# Altium footprint library PcbLib1.PcbLib: 218 footprints (part 7 of 14)
Each footprint in its own frame and in the unit in brackets; x right, y up, seen from the top. Pads: shape width x height; smd on the part's side, far side on the other; paste and mask are expansions set on the pad; w line width, h text height; cw(c..) or ccw(c..) is an arc to the next point about the centre after c.
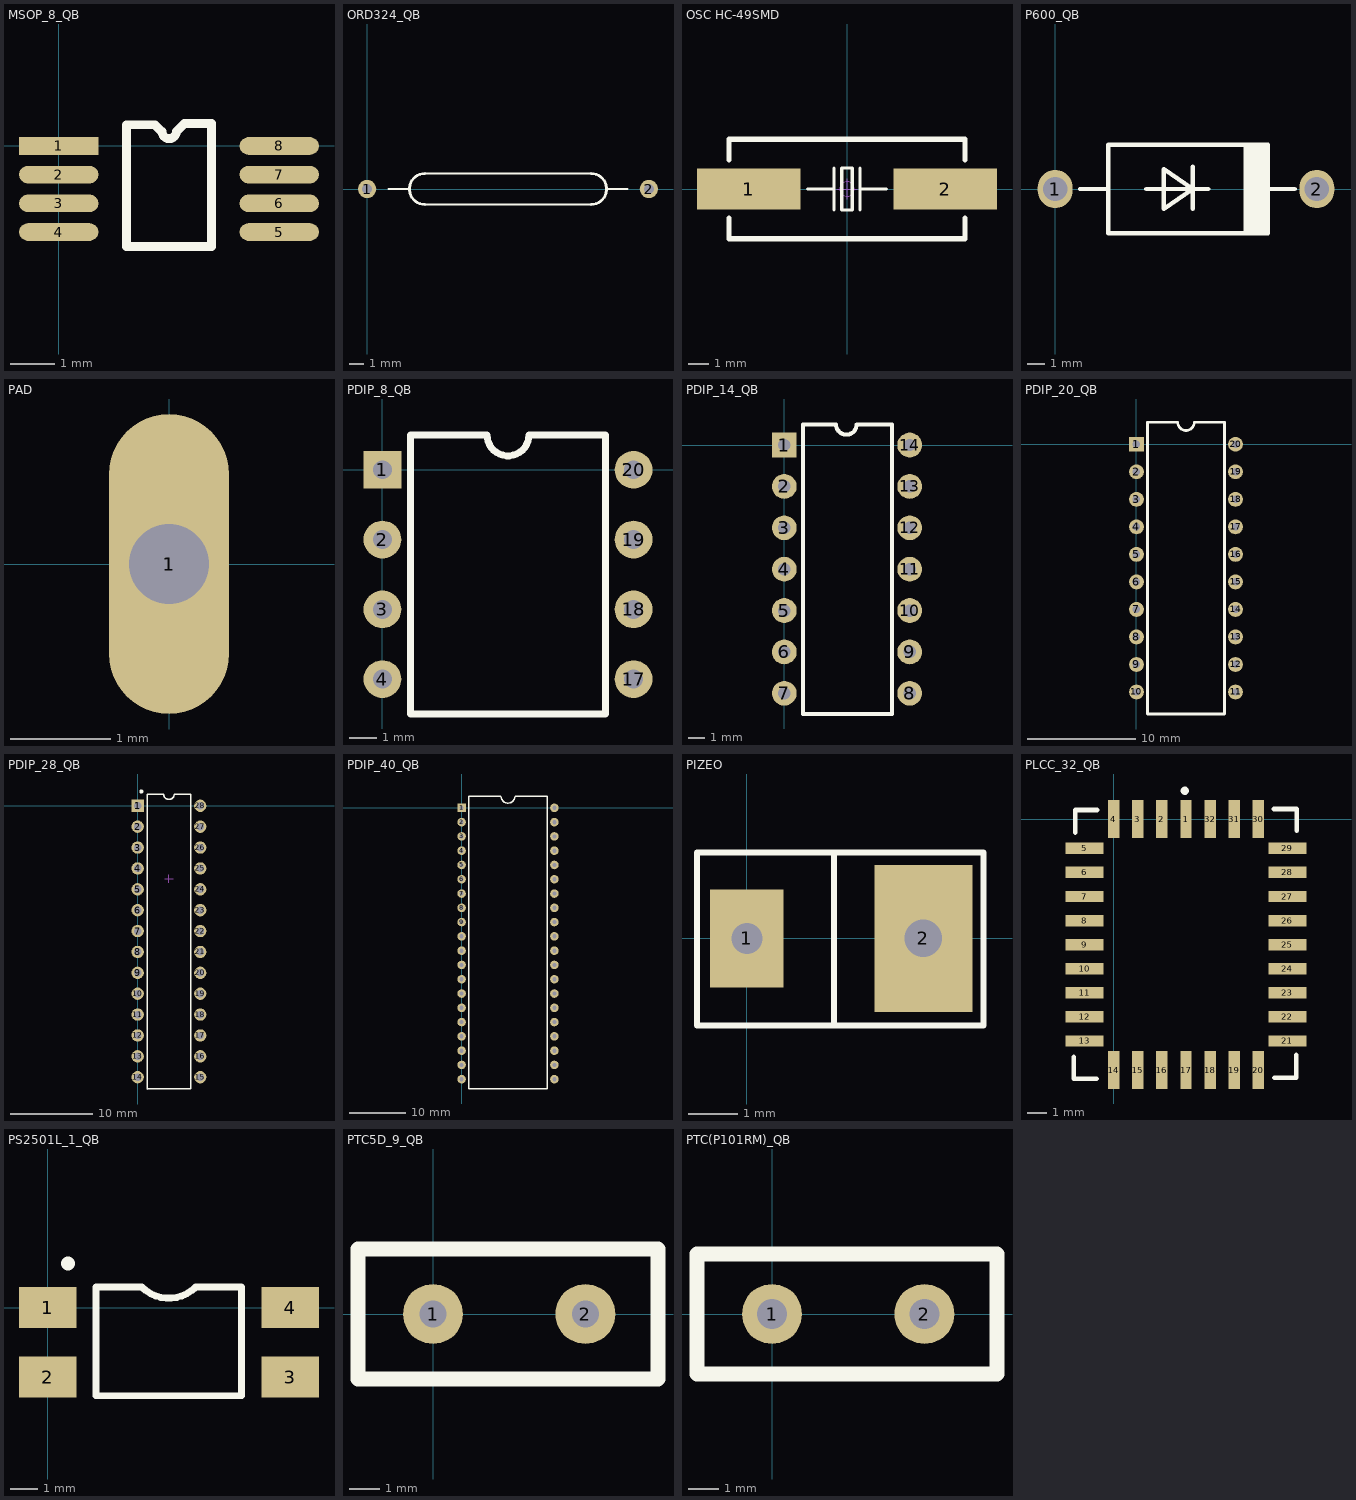
[diagram p6: the footprints below, top view; thin cyan lines are the x and y axes]

## MSOP_8_QB [mm]
pads (8):
  rect 1.8x0.4 smd: 1(0,0)
  oval 1.8x0.4 smd: 2(0,-0.65) 3(0,-1.3) 4(0,-1.95) 5(5,-1.95) 6(5,-1.3) 7(5,-0.65) 8(5,0)
Top Overlay:
  lines w0.2: 2.338,0.325 2.18,0.483 1.535,0.483 1.535,-2.275 3.465,-2.275 3.465,0.508 2.845,0.508 2.662,0.325 ; 2.342,0.33 ccw(c2.505,0.33) 2.667,0.33
3D body: height 1.1, standoff 0, extent 1.025,-2.362 3.962,0.559
3D body: height 0.5, standoff 0, extent 0,-0.178 1.575,0.178
3D body: height 0.5, standoff 0, extent 0,-1.473 1.575,-1.118
3D body: height 0.5, standoff 0, extent 0,-0.838 1.575,-0.483
3D body: height 0.5, standoff 0, extent 0,-2.134 1.575,-1.778
3D body: height 0.5, standoff 0, extent 3.429,-2.134 5.004,-1.778
3D body: height 0.5, standoff 0, extent 3.429,-1.473 5.004,-1.118
3D body: height 0.5, standoff 0, extent 3.429,-0.838 5.004,-0.483
3D body: height 0.5, standoff 0, extent 3.429,-0.178 5.004,0.178

## ORD324_QB [mm]
height 12
pads (2):
  round 1.3 hole 0.7: 1(0,0) 2(20,0)
Top Overlay:
  lines w0.127: 1.5,0 3,0 ; 4.1,-1.1 15.9,-1.1 ; 4.1,1.1 15.9,1.1 ; 17,0 18.5,0
  lines w0.2: 4.1,-1.1 cw(c4.1,0) 4.1,1.1 ; 15.9,-1.1 ccw(c15.9,0) 15.9,1.1
3D body: height 1.35, standoff 0.85, extent 19.812,-0.249 20.309,0.249
3D body: height 10.25, standoff 9.75, extent 19.823,-0.249 20.32,0.249
3D body: height 10.25, standoff 9.75, extent -0.249,-0.254 0.249,0.244
3D body: height 10, standoff -2, extent -0.249,-0.254 0.249,0.245
3D body: height 10.25, standoff 9.75, extent 0,-0.25 3.05,0.25
3D body: height 10.25, standoff 9.75, extent 17,-0.25 20.05,0.25
3D body: height 11.09, standoff 8.9, extent 3,-1.098 17,1.098
3D body: height 10, standoff -2, extent 19.821,-0.249 20.32,0.249

## OSC HC-49SMD [mm]
pads (2):
  rect 5x2 smd: 1(-4.75,0) 2(4.75,0)
Top Overlay:
  lines w0.152: -1.905,0 -0.635,0 ; -0.635,-1.016 -0.635,1.016 ; 0.635,-1.016 0.635,1.016 ; 0.635,0 1.905,0 ; -0.254,-1.016 -0.254,1.016 0.254,1.016 0.254,-1.016 -0.254,-1.016
  lines w0.254: -5.7,-1.397 -5.7,-2.4 5.7,-2.4 5.7,-1.397 ; -5.7,1.397 -5.7,2.4 5.7,2.4 5.7,1.397
Mechanical 15:
  circle w0.05: c0,0 r0.35
  lines w0.05: -0.5,0 0.5,0 ; 0,-0.5 0,0.5
3D body "OSC HC-49SMD.STEP": height 4.63, standoff 0.03, extent -6.5,-2.325 6.5,2.325

## P600_QB [mm]
pads (2):
  oval 2x2.2 hole 1.4: 1(0,0) 2(14.986,0)
Top Overlay:
  rectangle: 10.795,-2.54 12.192,2.54
  lines w0.254: 1.422,0 2.946,0 ; 5.207,0 8.763,0 ; 7.874,-1.143 7.874,1.27 ; 12.192,0 13.716,0 ; 3.048,-2.54 3.048,-1.27 3.048,1.27 3.048,2.54 3.302,2.54 12.192,2.54 12.192,-2.54 3.302,-2.54 3.048,-2.54 ; 6.223,-1.143 7.874,0 6.223,1.143 6.223,-1.143
3D body: height 2.6, standoff -2.6, extent 14.49,-0.499 15.486,0.499
3D body: height 2.6, standoff -2.6, extent -0.496,-0.499 0.5,0.499
3D body: height 3.1, standoff 2.1, extent 11.613,-0.483 15.413,0.515
3D body: height 3.1, standoff 2.1, extent -0.452,-0.483 3.348,0.515
3D body: height 5.18, standoff 0, extent 3.023,-2.569 12.163,2.62

## PAD [mm] "PAD"
pads (2):
  round 1.2 hole 0.8: 1(0,0)
  oval 1.2x3 smd mask+0.01: 1(0,0)

## PCBComponent_1 [mm]

## PDIP_8_QB [mil]
pads (8):
  rect 54x54 hole 27: 1(0,0)
  round 54 hole 27: 2(0,-100) 3(0,-200) 4(0,-300) 17(360,-300) 18(360,-200) 19(360,-100) 20(360,0)
Top Overlay:
  lines w10: 40,-350 40,50 150,50 ccw(c180,50) 210,50 320,50 320,-350 40,-350
3D body: height 100, standoff -102.36, extent 347.05,-12.97 372.95,12.97
3D body: height 100, standoff -102.36, extent 347.05,-112.97 372.95,-87.03
3D body: height 100, standoff -102.36, extent 347.05,-212.97 372.95,-187.03
3D body: height 100, standoff -102.36, extent 347.05,-312.97 372.95,-287.03
3D body: height 100, standoff -102.36, extent -12.95,-312.97 12.95,-287.03
3D body: height 200, standoff 15, extent 40,-350 320,50
3D body: height 100, standoff -102.36, extent -12.95,-12.97 12.95,12.97
3D body: height 113, standoff 87, extent -12.92,-12.94 12.95,12.94
3D body: height 112.9, standoff 87, extent 0,-12.97 40,12.97
3D body: height 112.9, standoff 87, extent 0,-112.97 40,-87.03
3D body: height 112.9, standoff 87, extent 0,-212.97 40,-187.03
3D body: height 112.9, standoff 87, extent 0,-312.97 40,-287.03
3D body: height 100, standoff -102.36, extent -12.95,-112.97 12.95,-87.03
3D body: height 100, standoff -102.36, extent -12.95,-212.97 12.95,-187.03
3D body: height 113, standoff 87, extent -12.92,-112.94 12.95,-87.06
3D body: height 112.9, standoff 87, extent 320,-312.97 360,-287.03
3D body: height 112.9, standoff 87, extent 320,-212.97 360,-187.03
3D body: height 112.9, standoff 87, extent 320,-112.97 360,-87.03
3D body: height 112.9, standoff 87, extent 320,-12.97 360,12.97
3D body: height 113, standoff 87, extent -12.92,-212.94 12.95,-187.06
3D body: height 113, standoff 87, extent -12.92,-312.94 12.95,-287.06
3D body: height 113, standoff 87, extent 347.08,-312.94 372.95,-287.06
3D body: height 113, standoff 87, extent 347.08,-212.94 372.95,-187.06
3D body: height 113, standoff 87, extent 347.08,-112.94 372.95,-87.06
3D body: height 113, standoff 87, extent 347.08,-12.94 372.95,12.94

## PDIP_14_QB [mil]
pads (14):
  rect 60x60 hole 30: 1(0,0)
  round 60 hole 30: 2(0,-100) 3(0,-200) 4(0,-300) 5(0,-400) 6(0,-500) 7(0,-600) 8(303.15,-600) 9(303.15,-500) 10(303.15,-400) 11(303.15,-300) 12(303.15,-200) 13(303.15,-100) 14(303.15,0)
Top Overlay:
  lines w10: 45,-650 45,50 125,50 ccw(c150,50) 175,50 260,50 260,-650 45,-650
3D body: height 92.41, standoff 64.96, extent 253.15,-13.75 303.15,13.76
3D body: height 92.41, standoff 64.96, extent 253.15,-113.75 303.15,-86.25
3D body: height 92.41, standoff 64.96, extent 253.15,-213.75 303.15,-186.25
3D body: height 92.41, standoff 64.96, extent 253.15,-313.76 303.15,-286.25
3D body: height 92.41, standoff 64.96, extent 253.15,-413.76 303.15,-386.25
3D body: height 92.41, standoff 64.96, extent 253.15,-513.75 303.15,-486.25
3D body: height 92.41, standoff 64.96, extent 250,-613.75 300,-586.25
3D body: height 92.41, standoff 64.96, extent 0,-113.75 50,-86.25
3D body: height 92.41, standoff 64.96, extent 0,-213.75 50,-186.25
3D body: height 92.41, standoff 64.96, extent 0,-313.75 50,-286.25
3D body: height 92.41, standoff 64.96, extent 0,-413.75 50,-386.25
3D body: height 92.41, standoff 64.96, extent 0,-513.75 50,-486.25
3D body: height 91.63, standoff 65.75, extent 0,-12.97 50,12.97
3D body: height 92.41, standoff 64.96, extent 0,-613.75 50,-586.25
3D body: height 78.74, standoff -102.36, extent -12.89,-612.96 13,-587.03
3D body: height 200, standoff 37.4, extent 40,-675 265,75
3D body: height 78.74, standoff -102.36, extent -12.89,-312.96 13,-287.03
3D body: height 78.74, standoff -102.36, extent -12.89,-212.96 13,-187.03
3D body: height 78.74, standoff -102.36, extent -12.89,-112.96 13,-87.03
3D body: height 78.74, standoff -102.36, extent -12.89,-12.96 13,12.97
3D body: height 78.74, standoff -102.36, extent -12.89,-412.96 13,-387.03
3D body: height 78.74, standoff -102.36, extent -12.89,-512.96 13,-487.03
3D body: height 78.74, standoff -102.36, extent 290.27,-612.96 316.15,-587.03
3D body: height 78.74, standoff -102.36, extent 290.27,-512.96 316.15,-487.03
3D body: height 78.74, standoff -102.36, extent 290.27,-412.96 316.15,-387.02
3D body: height 78.74, standoff -102.36, extent 290.27,-312.96 316.15,-287.03
3D body: height 78.74, standoff -102.36, extent 290.27,-212.96 316.15,-187.03
3D body: height 78.74, standoff -102.36, extent 290.27,-112.96 316.15,-87.03
3D body: height 78.74, standoff -102.36, extent 290.27,-12.96 316.15,12.97
3D body: height 92.52, standoff 64.96, extent -13.63,-613.72 13.79,-586.27
3D body: height 92.52, standoff 64.96, extent -13.63,-513.72 13.79,-486.27
3D body: height 92.52, standoff 64.96, extent -13.63,-413.72 13.79,-386.27
3D body: height 92.52, standoff 64.96, extent -13.63,-313.72 13.79,-286.27
3D body: height 92.52, standoff 64.96, extent -13.63,-213.72 13.79,-186.27
3D body: height 92.52, standoff 64.96, extent -13.63,-113.72 13.79,-86.27
3D body: height 92.52, standoff 64.96, extent -13.63,-13.72 13.79,13.73
3D body: height 92.52, standoff 64.96, extent 289.52,-13.72 316.94,13.73
3D body: height 92.52, standoff 64.96, extent 289.52,-113.72 316.94,-86.27
3D body: height 92.52, standoff 64.96, extent 289.52,-213.72 316.94,-186.27
3D body: height 92.52, standoff 64.96, extent 289.52,-313.72 316.94,-286.27
3D body: height 92.52, standoff 64.96, extent 289.52,-413.72 316.94,-386.27
3D body: height 92.52, standoff 64.96, extent 289.52,-513.72 316.94,-486.27
3D body: height 92.52, standoff 64.96, extent 289.52,-613.72 316.94,-586.27

## PDIP_20_QB [mil]
pads (20):
  rect 54x54 hole 27: 1(0,0)
  round 54 hole 27: 2(0,-100) 3(0,-200) 4(0,-300) 5(0,-400) 6(0,-500) 7(0,-600) 8(0,-700) 9(0,-800) 10(0,-900) 11(360,-900) 12(360,-800) 13(360,-700) 14(360,-600) 15(360,-500) 16(360,-400) 17(360,-300) 18(360,-200) 19(360,-100) 20(360,0)
Top Overlay:
  lines w10: 40,-980 320,-980 320,80 210,80 cw(c180,80) 150,80 40,80 40,-980
3D body: height 113, standoff 87, extent 347.08,-12.94 372.95,12.94
3D body: height 113, standoff 87, extent 347.08,-112.94 372.95,-87.06
3D body: height 113, standoff 87, extent 347.08,-212.94 372.95,-187.06
3D body: height 113, standoff 87, extent 347.08,-312.94 372.95,-287.06
3D body: height 113, standoff 87, extent 347.08,-412.94 372.95,-387.06
3D body: height 113, standoff 87, extent 347.08,-512.94 372.95,-487.06
3D body: height 113, standoff 87, extent 347.08,-612.94 372.95,-587.06
3D body: height 113, standoff 87, extent 347.08,-712.94 372.95,-687.06
3D body: height 113, standoff 87, extent 347.08,-812.94 372.95,-787.06
3D body: height 113, standoff 87, extent 347.08,-912.94 372.95,-887.06
3D body: height 113, standoff 87, extent -12.92,-912.94 12.95,-887.06
3D body: height 113, standoff 87, extent -12.92,-812.94 12.95,-787.06
3D body: height 113, standoff 87, extent -12.92,-712.94 12.95,-687.06
3D body: height 113, standoff 87, extent -12.92,-612.94 12.95,-587.06
3D body: height 113, standoff 87, extent -12.92,-512.94 12.95,-487.06
3D body: height 113, standoff 87, extent -12.92,-412.94 12.95,-387.06
3D body: height 113, standoff 87, extent -12.92,-312.94 12.95,-287.06
3D body: height 113, standoff 87, extent -12.92,-212.94 12.95,-187.06
3D body: height 112.9, standoff 87, extent 320,-12.97 360,12.97
3D body: height 112.9, standoff 87, extent 320,-112.97 360,-87.03
3D body: height 112.9, standoff 87, extent 320,-212.97 360,-187.03
3D body: height 112.9, standoff 87, extent 320,-312.97 360,-287.03
3D body: height 112.9, standoff 87, extent 320,-412.97 360,-387.03
3D body: height 112.9, standoff 87, extent 320,-512.97 360,-487.03
3D body: height 112.9, standoff 87, extent 320,-612.97 360,-587.03
3D body: height 112.9, standoff 87, extent 320,-712.97 360,-687.03
3D body: height 112.9, standoff 87, extent 320,-812.97 360,-787.03
3D body: height 112.9, standoff 87, extent 320,-912.97 360,-887.03
3D body: height 112.9, standoff 87, extent 0,-912.97 40,-887.03
3D body: height 112.9, standoff 87, extent 0,-812.97 40,-787.03
3D body: height 112.9, standoff 87, extent 0,-712.97 40,-687.03
3D body: height 112.9, standoff 87, extent 0,-612.97 40,-587.03
3D body: height 112.9, standoff 87, extent 0,-512.97 40,-487.03
3D body: height 112.9, standoff 87, extent 0,-412.97 40,-387.03
3D body: height 113, standoff 87, extent -12.92,-112.94 12.95,-87.06
3D body: height 100, standoff -102.36, extent -12.95,-212.97 12.95,-187.03
3D body: height 100, standoff -102.36, extent -12.95,-112.97 12.95,-87.03
3D body: height 112.9, standoff 87, extent 0,-312.97 40,-287.03
3D body: height 112.9, standoff 87, extent 0,-212.97 40,-187.03
3D body: height 112.9, standoff 87, extent 0,-112.97 40,-87.03
3D body: height 112.9, standoff 87, extent 0,-12.97 40,12.97
3D body: height 113, standoff 87, extent -12.92,-12.94 12.95,12.94
3D body: height 100, standoff -102.36, extent -12.95,-12.97 12.95,12.97
3D body: height 200, standoff 15, extent 40,-980 320,80
3D body: height 100, standoff -102.36, extent -12.95,-312.97 12.95,-287.03
3D body: height 100, standoff -102.36, extent -12.95,-412.97 12.95,-387.03
3D body: height 100, standoff -102.36, extent -12.95,-512.97 12.95,-487.03
3D body: height 100, standoff -102.36, extent -12.95,-612.97 12.95,-587.03
3D body: height 100, standoff -102.36, extent -12.95,-712.97 12.95,-687.03
3D body: height 100, standoff -102.36, extent -12.95,-812.97 12.95,-787.03
3D body: height 100, standoff -102.36, extent -12.95,-912.97 12.95,-887.03
3D body: height 100, standoff -102.36, extent 347.05,-912.97 372.95,-887.03
3D body: height 100, standoff -102.36, extent 347.05,-812.97 372.95,-787.03
3D body: height 100, standoff -102.36, extent 347.05,-712.97 372.95,-687.03
3D body: height 100, standoff -102.36, extent 347.05,-612.97 372.95,-587.03
3D body: height 100, standoff -102.36, extent 347.05,-512.97 372.95,-487.03
3D body: height 100, standoff -102.36, extent 347.05,-412.97 372.95,-387.03
3D body: height 100, standoff -102.36, extent 347.05,-312.97 372.95,-287.03
3D body: height 100, standoff -102.36, extent 347.05,-212.97 372.95,-187.03
3D body: height 100, standoff -102.36, extent 347.05,-112.97 372.95,-87.03
3D body: height 100, standoff -102.36, extent 347.05,-12.97 372.95,12.97

## PDIP_28_QB [mm]
height 4.06
pads (28):
  rect 1.5x1.5 hole 0.9: 1(0,0)
  round 1.5 hole 0.9: 2(0,-2.54) 3(0,-5.08) 4(0,-7.62) 5(0,-10.16) 6(0,-12.7) 7(0,-15.24) 8(0,-17.78) 9(0,-20.32) 10(0,-22.86) 11(0,-25.4) 12(0,-27.94) 13(0,-30.48) 14(0,-33.02) 15(7.62,-33.02) 16(7.62,-30.48) 17(7.62,-27.94) 18(7.62,-25.4) 19(7.62,-22.86) 20(7.62,-20.32) 21(7.62,-17.78) 22(7.62,-15.24) 24(7.62,-10.16) 25(7.62,-7.62) 26(7.62,-5.08) 27(7.62,-2.54) 28(7.62,0)
  oval 1.5x1.523 hole 0.9: 23(7.62,-12.7)
Top Overlay:
  circle w0.25: c0.451,1.737 r0.125
  lines w0.2: 1.16,-34.455 1.16,1.41 3.175,1.41 ccw(c3.81,1.41) 4.445,1.41 6.46,1.41 6.46,-34.408 ; 1.16,-34.431 6.46,-34.431
Mechanical 15:
  lines w0.1: 3.31,-8.89 4.31,-8.89 ; 3.81,-9.39 3.81,-8.39
3D body: height 4.06, standoff 0.5, extent 0.141,-34.361 7.462,1.321
3D body: height 2.5, standoff 2.3, extent 7.466,-20.818 7.566,-19.818
3D body: height 2.5, standoff 0.8, extent 7.565,-20.818 7.765,-19.818
3D body: height 0.8, standoff 0, extent 7.566,-20.818 7.766,-19.818
3D body: height 2.5, standoff 2.3, extent 7.466,-23.358 7.566,-22.358
3D body: height 2.5, standoff 0.8, extent 7.565,-23.358 7.765,-22.358
3D body: height 0.8, standoff 0, extent 7.566,-23.358 7.766,-22.358
3D body: height 2.5, standoff 2.3, extent 7.466,-25.898 7.566,-24.898
3D body: height 2.5, standoff 0.8, extent 7.565,-25.898 7.765,-24.898
3D body: height 0.8, standoff 0, extent 7.566,-25.898 7.766,-24.898
3D body: height 2.5, standoff 2.3, extent 7.466,-28.438 7.566,-27.438
3D body: height 2.5, standoff 0.8, extent 7.565,-28.438 7.765,-27.438
3D body: height 0.8, standoff 0, extent 7.566,-28.438 7.766,-27.438
3D body: height 2.5, standoff 2.3, extent 7.466,-30.978 7.566,-29.978
3D body: height 2.5, standoff 0.8, extent 7.565,-30.978 7.765,-29.978
3D body: height 0.8, standoff 0, extent 7.566,-30.978 7.766,-29.978
3D body: height 2.5, standoff 2.3, extent 7.46,-33.518 7.56,-32.519
3D body: height 2.5, standoff 0.8, extent 7.559,-33.518 7.759,-32.518
3D body: height 0.8, standoff 0, extent 7.56,-33.519 7.76,-32.519
3D body: height 0.8, standoff 0, extent -0.15,-20.821 0.05,-19.821
3D body: height 2.5, standoff 0.8, extent -0.15,-20.821 0.05,-19.821
3D body: height 2.5, standoff 2.3, extent 0.05,-20.821 0.15,-19.821
3D body: height 0.8, standoff 0, extent -0.15,-23.361 0.05,-22.361
3D body: height 2.5, standoff 0.8, extent -0.15,-23.361 0.05,-22.361
3D body: height 2.5, standoff 2.3, extent 0.05,-23.361 0.15,-22.361
3D body: height 0.8, standoff 0, extent -0.15,-25.901 0.05,-24.901
3D body: height 2.5, standoff 0.8, extent -0.15,-25.901 0.05,-24.901
3D body: height 2.5, standoff 2.3, extent 0.05,-25.901 0.15,-24.901
3D body: height 0.8, standoff 0, extent -0.15,-28.441 0.05,-27.441
3D body: height 2.5, standoff 0.8, extent -0.15,-28.441 0.05,-27.441
3D body: height 2.5, standoff 2.3, extent 0.05,-28.441 0.15,-27.441
3D body: height 0.8, standoff 0, extent -0.15,-30.981 0.05,-29.981
3D body: height 2.5, standoff 0.8, extent -0.15,-30.981 0.05,-29.981
3D body: height 2.5, standoff 2.3, extent 0.05,-30.981 0.15,-29.981
3D body: height 2.5, standoff 2.3, extent 0.044,-33.521 0.144,-32.521
3D body: height 2.5, standoff 0.8, extent -0.156,-33.521 0.044,-32.521
3D body: height 0.8, standoff 0, extent -0.156,-33.521 0.044,-32.521
3D body: height 2.5, standoff 2.3, extent 7.466,-3.038 7.566,-2.038
3D body: height 2.5, standoff 0.8, extent 7.565,-3.038 7.765,-2.038
3D body: height 0.8, standoff 0, extent 7.566,-3.038 7.766,-2.038
3D body: height 2.5, standoff 2.3, extent 7.466,-5.578 7.566,-4.578
3D body: height 2.5, standoff 0.8, extent 7.565,-5.578 7.765,-4.578
3D body: height 0.8, standoff 0, extent 7.566,-5.578 7.766,-4.578
3D body: height 2.5, standoff 2.3, extent 7.466,-8.118 7.566,-7.118
3D body: height 2.5, standoff 0.8, extent 7.565,-8.118 7.765,-7.118
3D body: height 0.8, standoff 0, extent 7.566,-8.118 7.766,-7.118
3D body: height 2.5, standoff 2.3, extent 7.466,-10.658 7.566,-9.658
3D body: height 2.5, standoff 0.8, extent 7.565,-10.658 7.765,-9.658
3D body: height 0.8, standoff 0, extent 7.566,-10.658 7.766,-9.658
3D body: height 2.5, standoff 2.3, extent 7.466,-13.198 7.566,-12.198
3D body: height 2.5, standoff 0.8, extent 7.565,-13.198 7.765,-12.198
3D body: height 0.8, standoff 0, extent 7.566,-13.198 7.766,-12.198
3D body: height 2.5, standoff 2.3, extent 7.466,-15.738 7.566,-14.738
3D body: height 2.5, standoff 0.8, extent 7.565,-15.738 7.765,-14.738
3D body: height 0.8, standoff 0, extent 7.566,-15.738 7.766,-14.738
3D body: height 2.5, standoff 2.3, extent 7.466,-18.278 7.566,-17.278
3D body: height 2.5, standoff 0.8, extent 7.565,-18.278 7.765,-17.278
3D body: height 0.8, standoff 0, extent 7.566,-18.278 7.766,-17.278
3D body: height 2.5, standoff 2.3, extent 7.46,-0.498 7.56,0.501
3D body: height 2.5, standoff 0.8, extent 7.559,-0.499 7.759,0.501
3D body: height 0.8, standoff 0, extent 7.56,-0.499 7.76,0.501
3D body: height 0.8, standoff 0, extent -0.15,-3.042 0.05,-2.042
3D body: height 2.5, standoff 0.8, extent -0.15,-3.042 0.05,-2.042
3D body: height 2.5, standoff 2.3, extent 0.05,-3.042 0.15,-2.042
3D body: height 0.8, standoff 0, extent -0.15,-5.582 0.05,-4.582
3D body: height 2.5, standoff 0.8, extent -0.15,-5.582 0.05,-4.582
3D body: height 2.5, standoff 2.3, extent 0.05,-5.582 0.15,-4.582
3D body: height 0.8, standoff 0, extent -0.15,-8.122 0.05,-7.122
3D body: height 2.5, standoff 0.8, extent -0.15,-8.122 0.05,-7.122
3D body: height 2.5, standoff 2.3, extent 0.05,-8.122 0.15,-7.122
3D body: height 0.8, standoff 0, extent -0.15,-10.662 0.05,-9.662
3D body: height 2.5, standoff 0.8, extent -0.15,-10.662 0.05,-9.662
3D body: height 2.5, standoff 2.3, extent 0.05,-10.662 0.15,-9.662
3D body: height 0.8, standoff 0, extent -0.15,-13.202 0.05,-12.202
3D body: height 2.5, standoff 0.8, extent -0.15,-13.202 0.05,-12.202
3D body: height 2.5, standoff 2.3, extent 0.05,-13.202 0.15,-12.202
3D body: height 0.8, standoff 0, extent -0.15,-15.742 0.05,-14.742
3D body: height 2.5, standoff 0.8, extent -0.15,-15.742 0.05,-14.742
3D body: height 2.5, standoff 2.3, extent 0.05,-15.742 0.15,-14.742
3D body: height 0.8, standoff 0, extent -0.15,-18.282 0.05,-17.282
3D body: height 2.5, standoff 0.8, extent -0.15,-18.282 0.05,-17.282
3D body: height 2.5, standoff 2.3, extent 0.05,-18.282 0.15,-17.282
3D body: height 2.5, standoff 2.3, extent 0.043,-0.501 0.143,0.499
3D body: height 2.5, standoff 0.8, extent -0.157,-0.501 0.043,0.499
3D body: height 0.8, standoff 0, extent -0.157,-0.501 0.043,0.499

## PDIP_40_QB [mil]
pads (40):
  rect 60x60 hole 30: 1(0,0)
  round 60 hole 30: 2(0,-100) 3(0,-200) 4(0,-300) 5(0,-400) 6(0,-500) 7(0,-600) 8(0,-700) 9(0,-800) 10(0,-900) 11(0,-1000) 12(0,-1100) 13(0,-1200) 14(0,-1300) 15(0,-1400) 16(0,-1500) 17(0,-1600) 18(0,-1700) 19(0,-1800) 20(0,-1900) 21(650,-1900) 22(650,-1800) 23(650,-1700) 24(650,-1600) 25(650,-1500) 26(650,-1400) 27(650,-1300) 28(650,-1200) 29(650,-1100) 30(650,-1000) 31(650,-900) 32(650,-800) 33(650,-700) 34(650,-600) 35(650,-500) 36(650,-400) 37(650,-300) 38(650,-200) 39(650,-100) 40(650,0)
Top Overlay:
  lines w10: 51,-1968.5 599,-1968.5 599,82.68 374.02,82.68 cw(c324.8,82.68) 275.59,82.68 51,82.68 51,-1968.5
3D body: height 144.88, standoff 115, extent 0,-1915 55,-1885.06
3D body: height 144.88, standoff 115, extent 0,-1815 55,-1785.06
3D body: height 144.88, standoff 115, extent 0,-1715 55,-1685.06
3D body: height 144.88, standoff 115, extent 0,-1615 55,-1585.06
3D body: height 144.88, standoff 115, extent 0,-1515 55,-1485.06
3D body: height 144.88, standoff 115, extent 0,-1415 55,-1385.06
3D body: height 144.88, standoff 115, extent 0,-1315 55,-1285.06
3D body: height 144.88, standoff 115, extent 0,-1215 55,-1185.06
3D body: height 144.88, standoff 115, extent 0,-1115 55,-1085.06
3D body: height 144.88, standoff 115, extent 0,-1015 55,-985.06
3D body: height 144.88, standoff 115, extent 0,-915 55,-885.06
3D body: height 144.88, standoff 115, extent 0,-815 55,-785.06
3D body: height 144.88, standoff 115, extent 0,-715 55,-685.06
3D body: height 144.88, standoff 115, extent 0,-615 55,-585.06
3D body: height 144.88, standoff 115, extent 0,-515 55,-485.06
3D body: height 144.88, standoff 115, extent 0,-415 55,-385.06
3D body: height 144.88, standoff 115, extent 0,-315 55,-285.06
3D body: height 130, standoff -102.36, extent 635,-14.97 664.88,14.97
3D body: height 130, standoff -102.36, extent 635,-114.97 664.88,-85.03
3D body: height 130, standoff -102.36, extent 635,-214.97 664.88,-185.03
3D body: height 130, standoff -102.36, extent 635,-314.97 664.88,-285.03
3D body: height 130, standoff -102.36, extent 635,-414.97 664.88,-385.03
3D body: height 130, standoff -102.36, extent 635,-514.97 664.88,-485.03
3D body: height 130, standoff -102.36, extent 635,-614.97 664.88,-585.03
3D body: height 130, standoff -102.36, extent 635,-714.97 664.88,-685.03
3D body: height 130, standoff -102.36, extent 635,-814.97 664.88,-785.03
3D body: height 130, standoff -102.36, extent 635,-914.97 664.88,-885.03
3D body: height 130, standoff -102.36, extent 635,-1014.97 664.88,-985.03
3D body: height 130, standoff -102.36, extent 635,-1114.97 664.88,-1085.03
3D body: height 130, standoff -102.36, extent 635,-1214.97 664.88,-1185.03
3D body: height 130, standoff -102.36, extent 635,-1314.97 664.88,-1285.03
3D body: height 130, standoff -102.36, extent 635,-1414.97 664.88,-1385.03
3D body: height 130, standoff -102.36, extent 635,-1514.97 664.88,-1485.03
3D body: height 130, standoff -102.36, extent 635,-1614.97 664.88,-1585.03
3D body: height 130, standoff -102.36, extent 635,-1714.97 664.88,-1685.03
3D body: height 130, standoff -102.36, extent 635,-1814.97 664.88,-1785.03
3D body: height 130, standoff -102.36, extent 635,-1914.97 664.88,-1885.03
3D body: height 130, standoff -102.36, extent -15,-1914.97 14.88,-1885.03
3D body: height 130, standoff -102.36, extent -15,-1814.97 14.88,-1785.03
3D body: height 130, standoff -102.36, extent -15,-1714.97 14.88,-1685.03
3D body: height 130, standoff -102.36, extent -15,-1614.97 14.88,-1585.03
3D body: height 130, standoff -102.36, extent -15,-1514.97 14.88,-1485.03
3D body: height 130, standoff -102.36, extent -15,-1414.97 14.88,-1385.03
3D body: height 130, standoff -102.36, extent -15,-1314.97 14.88,-1285.03
3D body: height 130, standoff -102.36, extent -15,-1214.97 14.88,-1185.03
3D body: height 130, standoff -102.36, extent -15,-1114.97 14.88,-1085.03
3D body: height 130, standoff -102.36, extent -15,-1014.97 14.88,-985.03
3D body: height 130, standoff -102.36, extent -15,-914.97 14.88,-885.03
3D body: height 130, standoff -102.36, extent -15,-814.97 14.88,-785.03
3D body: height 130, standoff -102.36, extent -15,-714.97 14.88,-685.03
3D body: height 130, standoff -102.36, extent -15,-614.97 14.88,-585.03
3D body: height 130, standoff -102.36, extent -15,-514.97 14.88,-485.03
3D body: height 130, standoff -102.36, extent -15,-414.97 14.88,-385.03
3D body: height 130, standoff -102.36, extent -15,-314.97 14.88,-285.03
3D body: height 130, standoff -102.36, extent -15,-214.97 14.88,-185.03
3D body: height 145, standoff 115, extent -15,-114.94 14.84,-85.06
3D body: height 144.88, standoff 115, extent 0,-15 55,14.94
3D body: height 145, standoff 115, extent -15,-14.94 14.84,14.94
3D body: height 130, standoff -102.36, extent -15,-114.97 14.88,-85.03
3D body: height 130, standoff -102.36, extent -15,-14.97 14.88,14.97
3D body: height 220, standoff 40, extent 55,-1965 595,79
3D body: height 144.88, standoff 115, extent 0,-115 55,-85.06
3D body: height 144.88, standoff 115, extent 0,-215 55,-185.06
3D body: height 144.88, standoff 115, extent 595,-1914.94 650,-1885
3D body: height 144.88, standoff 115, extent 595,-1814.94 650,-1785
3D body: height 144.88, standoff 115, extent 595,-1714.94 650,-1685
3D body: height 144.88, standoff 115, extent 595,-1614.94 650,-1585
3D body: height 144.88, standoff 115, extent 595,-1514.94 650,-1485
3D body: height 144.88, standoff 115, extent 595,-1414.94 650,-1385
3D body: height 144.88, standoff 115, extent 595,-1314.94 650,-1285
3D body: height 144.88, standoff 115, extent 595,-1214.94 650,-1185
3D body: height 144.88, standoff 115, extent 595,-1114.94 650,-1085
3D body: height 144.88, standoff 115, extent 595,-1014.94 650,-985
3D body: height 144.88, standoff 115, extent 595,-914.94 650,-885
3D body: height 144.88, standoff 115, extent 595,-814.94 650,-785
3D body: height 144.88, standoff 115, extent 595,-714.94 650,-685
3D body: height 144.88, standoff 115, extent 595,-614.94 650,-585
3D body: height 144.88, standoff 115, extent 595,-514.94 650,-485
3D body: height 144.88, standoff 115, extent 595,-414.94 650,-385
3D body: height 144.88, standoff 115, extent 595,-314.94 650,-285
3D body: height 144.88, standoff 115, extent 595,-214.97 650,-185.03
3D body: height 144.88, standoff 115, extent 595,-114.94 650,-85
3D body: height 144.88, standoff 115, extent 595,-14.94 650,15
3D body: height 145, standoff 115, extent -15,-214.94 14.84,-185.06
3D body: height 145, standoff 115, extent -15,-314.94 14.84,-285.06
3D body: height 145, standoff 115, extent -15,-414.94 14.84,-385.06
3D body: height 145, standoff 115, extent -15,-514.94 14.84,-485.06
3D body: height 145, standoff 115, extent -15,-614.94 14.84,-585.06
3D body: height 145, standoff 115, extent -15,-714.94 14.84,-685.06
3D body: height 145, standoff 115, extent -15,-814.94 14.84,-785.06
3D body: height 145, standoff 115, extent -15,-914.94 14.84,-885.06
3D body: height 145, standoff 115, extent -15,-1014.94 14.84,-985.06
3D body: height 145, standoff 115, extent -15,-1114.94 14.84,-1085.06
3D body: height 145, standoff 115, extent -15,-1214.94 14.84,-1185.06
3D body: height 145, standoff 115, extent -15,-1314.94 14.84,-1285.06
3D body: height 145, standoff 115, extent -15,-1414.94 14.84,-1385.06
3D body: height 145, standoff 115, extent -15,-1514.94 14.84,-1485.06
3D body: height 145, standoff 115, extent -15,-1614.94 14.84,-1585.06
3D body: height 145, standoff 115, extent -15,-1714.94 14.84,-1685.06
3D body: height 145, standoff 115, extent -15,-1814.94 14.84,-1785.06
3D body: height 145, standoff 115, extent -15,-1914.94 14.84,-1885.06
3D body: height 145, standoff 115, extent 635,-1914.94 664.84,-1885.06
3D body: height 145, standoff 115, extent 635,-1814.94 664.84,-1785.06
3D body: height 145, standoff 115, extent 635,-1714.94 664.84,-1685.06
3D body: height 145, standoff 115, extent 635,-1614.94 664.84,-1585.06
3D body: height 145, standoff 115, extent 635,-1514.94 664.84,-1485.06
3D body: height 145, standoff 115, extent 635,-1414.94 664.84,-1385.06
3D body: height 145, standoff 115, extent 635,-1314.94 664.84,-1285.06
3D body: height 145, standoff 115, extent 635,-1214.94 664.84,-1185.06
3D body: height 145, standoff 115, extent 635,-1114.94 664.84,-1085.06
3D body: height 145, standoff 115, extent 635,-1014.94 664.84,-985.06
3D body: height 145, standoff 115, extent 635,-914.94 664.84,-885.06
3D body: height 145, standoff 115, extent 635,-814.94 664.84,-785.06
3D body: height 145, standoff 115, extent 635,-714.94 664.84,-685.06
3D body: height 145, standoff 115, extent 635,-614.94 664.84,-585.06
3D body: height 145, standoff 115, extent 635,-514.94 664.84,-485.06
3D body: height 145, standoff 115, extent 635,-414.94 664.84,-385.06
3D body: height 145, standoff 115, extent 635,-314.94 664.84,-285.06
3D body: height 145, standoff 115, extent 635,-214.94 664.84,-185.06
3D body: height 145, standoff 115, extent 635,-114.94 664.84,-85.06
3D body: height 145, standoff 115, extent 635,-14.94 664.84,14.94

## PIZEO [mm]
height 5.842
pads (2):
  rect 1.5x2 hole 0.635: 1(0,0)
  rect 2x3 hole 0.762: 2(3.6,0)
Top Overlay:
  lines w0.127: 1.775,-1.775 1.775,1.75 ; -1.016,-1.775 -1.016,1.75 4.825,1.75 4.825,-1.775 -1.016,-1.775

## PLCC_32_QB [mm]
pads (32):
  rect 0.6x2 smd: 1(3.81,0) 2(2.54,0) 3(1.27,0) 4(0,0) 14(0,-13.233) 15(1.27,-13.233) 16(2.54,-13.233) 17(3.81,-13.233) 18(5.08,-13.233) 19(6.35,-13.233) 20(7.62,-13.233) 30(7.62,0) 31(6.35,0) 32(5.08,0)
  rect 2x0.6 smd: 5(-1.54,-1.54) 6(-1.54,-2.81) 7(-1.54,-4.08) 8(-1.54,-5.35) 9(-1.54,-6.62) 10(-1.54,-7.89) 11(-1.54,-9.16) 12(-1.54,-10.43) 13(-1.54,-11.7) 21(9.16,-11.7) 22(9.16,-10.43) 23(9.16,-9.16) 24(9.16,-7.89) 25(9.16,-6.62) 26(9.16,-5.35) 27(9.16,-4.08) 28(9.16,-2.81) 29(9.16,-1.54)
Top Overlay:
  circle w0.254: c3.744,1.499 r0.092
  lines w0.254: -2.108,-12.548 -2.108,-13.691 -0.914,-13.691 ; -2.032,-0.711 -2.032,0.483 -0.889,0.483 ; 8.458,0.533 9.652,0.533 9.652,-0.61 ; 8.484,-13.64 9.627,-13.64 9.627,-12.446
3D body: height 2.25, standoff 0, extent -1.918,-1.778 -0.737,-1.308
3D body: height 2.25, standoff 0, extent -1.911,-3.054 -0.73,-2.584
3D body: height 2.25, standoff 0, extent -1.886,-4.324 -0.705,-3.854
3D body: height 2.25, standoff 0, extent -1.886,-5.594 -0.705,-5.124
3D body: height 2.25, standoff 0, extent -1.911,-6.864 -0.73,-6.394
3D body: height 2.25, standoff 0, extent -1.911,-8.109 -0.73,-7.639
3D body: height 2.25, standoff 0, extent -1.886,-9.404 -0.705,-8.934
3D body: height 2.25, standoff 0, extent -1.886,-10.674 -0.705,-10.204
3D body: height 2.25, standoff 0, extent -1.886,-11.944 -0.705,-11.474
3D body: height 2.25, standoff 0, extent -0.235,-13.595 0.235,-12.414
3D body: height 2.25, standoff 0, extent 1.035,-13.595 1.505,-12.414
3D body: height 2.25, standoff 0, extent 2.305,-13.595 2.775,-12.414
3D body: height 2.25, standoff 0, extent 3.575,-13.595 4.045,-12.414
3D body: height 2.25, standoff 0, extent 4.845,-13.595 5.315,-12.414
3D body: height 2.25, standoff 0, extent 6.115,-13.595 6.585,-12.414
3D body: height 2.25, standoff 0, extent 7.385,-13.595 7.855,-12.414
3D body: height 2.25, standoff 0, extent -0.235,-0.844 0.235,0.337
3D body: height 2.25, standoff 0, extent 1.01,-0.819 1.479,0.362
3D body: height 2.25, standoff 0, extent 2.305,-0.844 2.775,0.337
3D body: height 2.25, standoff 0, extent 3.575,-0.844 4.045,0.337
3D body: height 2.25, standoff 0, extent 4.845,-0.844 5.315,0.337
3D body: height 2.25, standoff 0, extent 6.115,-0.844 6.585,0.337
3D body: height 2.25, standoff 0, extent 7.385,-0.844 7.855,0.337
3D body: height 2.25, standoff 0, extent 8.319,-1.778 9.5,-1.308
3D body: height 2.25, standoff 0, extent 8.344,-3.048 9.525,-2.578
3D body: height 2.25, standoff 0, extent 8.319,-4.318 9.5,-3.848
3D body: height 2.25, standoff 0, extent 8.344,-5.588 9.525,-5.118
3D body: height 2.25, standoff 0, extent 8.369,-6.858 9.55,-6.388
3D body: height 2.25, standoff 0, extent 8.369,-8.128 9.55,-7.658
3D body: height 2.25, standoff 0, extent 8.344,-9.398 9.525,-8.928
3D body: height 2.25, standoff 0, extent 8.344,-10.668 9.525,-10.198
3D body: height 2.25, standoff 0, extent 8.344,-11.938 9.525,-11.468
3D body: height 3.4, standoff 0.64, extent -1.702,-13.335 9.322,0.089

## PS2501L_1_QB [mm]
height 3.8
pads (4):
  rect 2.1x1.5 smd: 1(0,0) 2(0,-2.54) 3(8.864,-2.54) 4(8.864,0)
Top Overlay:
  lines w0.254: 3.442,0.746 1.771,0.746 1.771,-3.225 7.076,-3.225 7.076,0.746 5.406,0.746 cw(c4.424,1.728) 3.442,0.746
  lines w0.5: 0.73,1.609 0.75,1.609
3D body: height 1.85, standoff 0, extent 8.36,-3.137 8.588,-1.893
3D body: height 0.1, standoff 0, extent 8.36,-3.136 9.25,-1.893
3D body: height 1.87, standoff 1.75, extent 7.698,-3.137 8.588,-1.893
3D body: height 1.87, standoff 1.75, extent 7.696,-0.602 8.582,0.642
3D body: height 0.1, standoff 0, extent 8.353,-0.601 9.243,0.642
3D body: height 1.85, standoff 0, extent 8.353,-0.602 8.582,0.642
3D body: height 1.87, standoff 1.75, extent 0.306,-3.187 1.195,-1.937
3D body: height 0.1, standoff 0, extent -0.37,-3.19 0.519,-1.94
3D body: height 1.85, standoff 0, extent 0.291,-3.185 0.519,-1.94
3D body: height 1.87, standoff 1.75, extent 0.305,-0.666 1.194,0.584
3D body: height 0.1, standoff 0, extent -0.371,-0.669 0.518,0.581
3D body: height 1.85, standoff 0, extent 0.29,-0.664 0.518,0.581
3D body: height 3.5, standoff 0.01, extent 1.195,-3.546 7.697,1.054

## PTC5D_9_QB [mm]
height 0.5
pads (2):
  round 2 hole 0.9: 1(0,0) 2(5.08,0)
Top Overlay:
  lines w0.5: -2.5,-2.159 7.5,-2.159 7.5,2.159 -2.5,2.159 -2.5,-2.159
3D body: height 3, standoff -1, extent 4.826,-0.2 5.224,0.2
3D body: height 3, standoff -1, extent -0.254,-0.2 0.144,0.2
3D body: height 11.76, standoff 2.2, extent -2.251,-2.214 7.331,2.286

## PTC(P101RM)_QB [mm]
height 0.5
pads (2):
  round 2 hole 1: 1(0,0) 2(5.08,0)
Top Overlay:
  lines w0.5: 7.5,-2 -2.5,-2 -2.5,2 7.5,2 7.5,-1.875
3D body: height 4, standoff -1, extent 5.08,-0.2 5.478,0.2
3D body: height 4, standoff -1, extent 0,-0.2 0.398,0.2
3D body: height 11.46, standoff 2.5, extent -2.091,-2.2 6.891,2.3